# Altium footprint library SparkFun-Jumpers.PCBLIB: 22 footprints (part 2 of 2)
Each footprint in its own frame and in the unit in brackets; x right, y up, seen from the top. Pads: shape width x height; smd on the part's side, far side on the other; paste and mask are expansions set on the pad; w line width, h text height; cw(c..) or ccw(c..) is an arc to the next point about the centre after c.
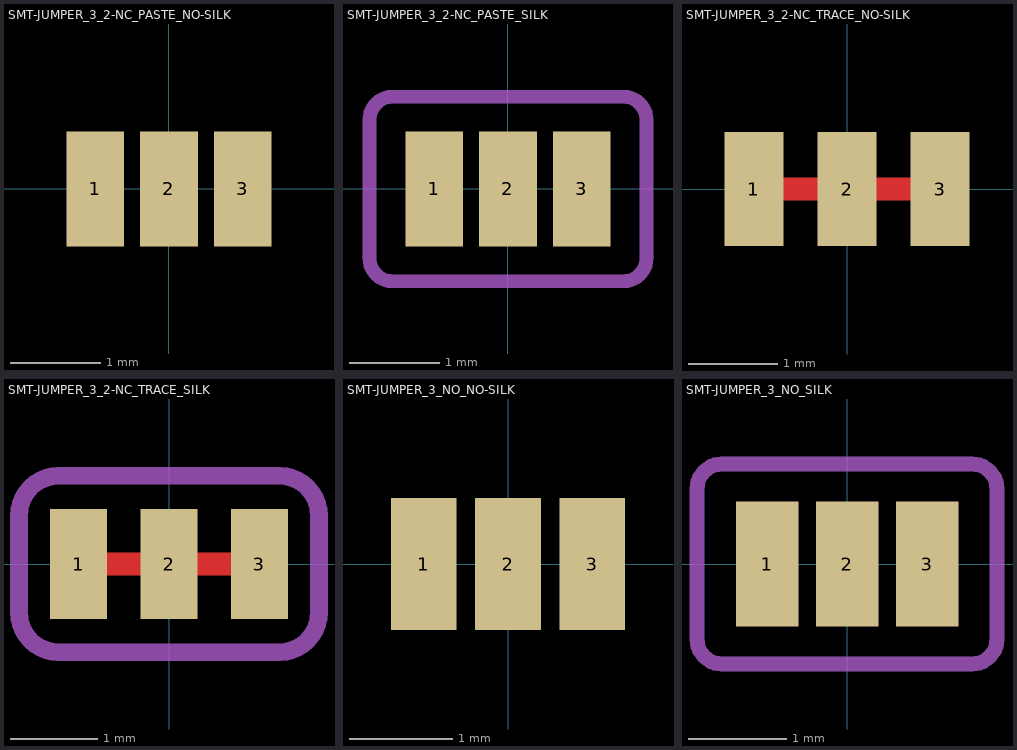
[diagram p1: the footprints below, top view; thin cyan lines are the x and y axes]

## SMT-JUMPER_3_2-NC_PASTE_NO-SILK [mil]
pads (3):
  rect 25x50 smd paste+0: 1(-32,0) 2(0,0) 3(32,0)
Top Paste:
  region: -65,-44 -65,44 65,44 65,-44

## SMT-JUMPER_3_2-NC_PASTE_SILK [mil]
pads (3):
  rect 25x50 smd paste+0: 1(-32,0) 2(0,0) 3(32,0)
Top Paste:
  region: -65,-44 -65,44 65,44 65,-44
tPlace:
  lines w6: -60,-30 ccw(c-50,-30) -50,-40 50,-40 ccw(c50,-30) 60,-30 60,30 ccw(c50,30) 50,40 -50,40 ccw(c-50,30) -60,30 -60,-30

## SMT-JUMPER_3_2-NC_TRACE_NO-SILK [mil]
pads (3):
  rect 26x50 smd paste+0: 1(-41,0) 2(0,0) 3(41,0)
Top:
  region: -21,5 21,5 21,-5 -21,-5
  region: 20,5 48.5,5 48.5,-5 20,-5
  region: -48.5,5 -20,5 -20,-5 -48.5,-5
Top Solder:
  region: 12.5,5 27.5,5 27.5,-5 12.5,-5
  region: -27.5,5 -12.5,5 -12.5,-5 -27.5,-5

## SMT-JUMPER_3_2-NC_TRACE_SILK [mil]
pads (3):
  rect 26x50 smd paste+0: 1(-41,0) 2(0,0) 3(41,0)
Top:
  region: -21,5 21,5 21,-5 -21,-5
  region: -48.5,5 -20,5 -20,-5 -48.5,-5
  region: 20,5 48.5,5 48.5,-5 20,-5
Top Solder:
  region: 12.5,5 27.5,5 27.5,-5 12.5,-5
  region: -27.5,5 -12.5,5 -12.5,-5 -27.5,-5
tPlace:
  lines w8: -68,-22 ccw(c-50,-22) -50,-40 50,-40 ccw(c50,-22) 68,-22 68,22 ccw(c50,22) 50,40 -50,40 ccw(c-50,22) -68,22 -68,-22

## SMT-JUMPER_3_NO_NO-SILK [mil]
pads (3):
  rect 25x50 smd paste+0: 1(-32,0) 2(0,0) 3(32,0)

## SMT-JUMPER_3_NO_SILK [mil]
pads (3):
  rect 25x50 smd paste+0: 1(-32,0) 2(0,0) 3(32,0)
tPlace:
  lines w6: -60,-30 ccw(c-50,-30) -50,-40 50,-40 ccw(c50,-30) 60,-30 60,30 ccw(c50,30) 50,40 -50,40 ccw(c-50,30) -60,30 -60,-30